# Altium schematic symbol library DG2535EDQ-T1-GE3.SchLib: 1 symbol
Pins are listed as number, name and electrical type; pins without a type are passive.

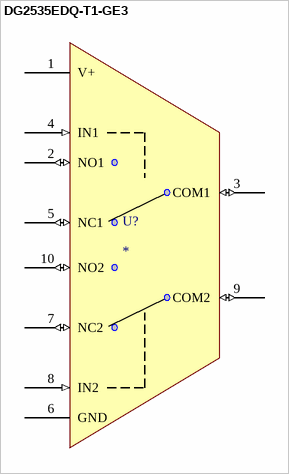
[diagram p0: symbol DG2535EDQ-T1-GE3]

## DG2535EDQ-T1-GE3
designator U?
Part Number: DG2535EDQ-T1-GE3; Parameter 1: *
pins: 1 V+ (power), 2 NO1 (io), 3 COM1 (io), 4 IN1 (in), 5 NC1 (io), 6 GND (power), 7 NC2 (io), 8 IN2 (in), 9 COM2 (io), 10 NO2 (io)